# EAGLE library part HARWIN_08 (library CNTRL_BOARD)
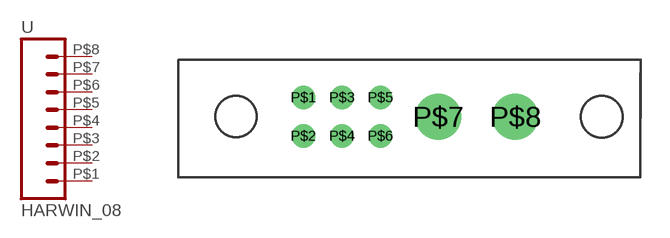
[diagram p2: symbol with the pads of HARWIN_DATAMATE_08; footprint HARWIN_DATAMATE_08]

Designator prefix -

## HARWIN_08  [HARWIN_DATAMATE_08]
P$1  1  pas
P$2  2  pas
P$3  3  pas
P$4  4  pas
P$5  5  pas
P$6  6  pas
P$7  7  pas
P$8  8  pas

## Footprint HARWIN_DATAMATE_08 (pad centres in mm)
drill 0.7: P$1 0,0; P$2 0,-2; P$3 2,0; P$4 2,-2; P$5 4,0; P$6 4,-2
drill 1.6: P$7 7,-1; P$8 11,-1